# Altium schematic symbol library Sch_lib.SchLib: 10 symbols
Pins are listed as number, name and electrical type; pins without a type are passive.

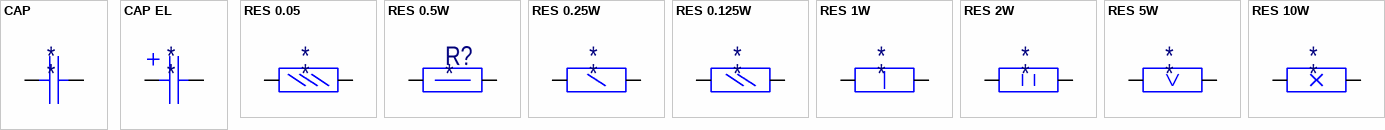
[diagram p0: symbols CAP to RES 10W]

## CAP
designator *
pins: 2, 3

## CAP EL
designator *
pins: 2, 3

## RES 0.05
designator *
pins: 0, 1

## RES 0.5W
designator R?
RES 0805 1206 0.5w; Value: *; Parameter 1: *
pins: 0, 1

## RES 0.25W
designator *
pins: 0, 1

## RES 0.125W
designator *
pins: 0, 1

## RES 1W
designator *
pins: 0, 1

## RES 2W
designator *
pins: 0, 1

## RES 5W
designator *
pins: 0, 1

## RES 10W
designator *
pins: 0, 1